# Altium schematic symbol library Discrete.SchLib: 34 symbols
Pins are listed as number, name and electrical type; pins without a type are passive.

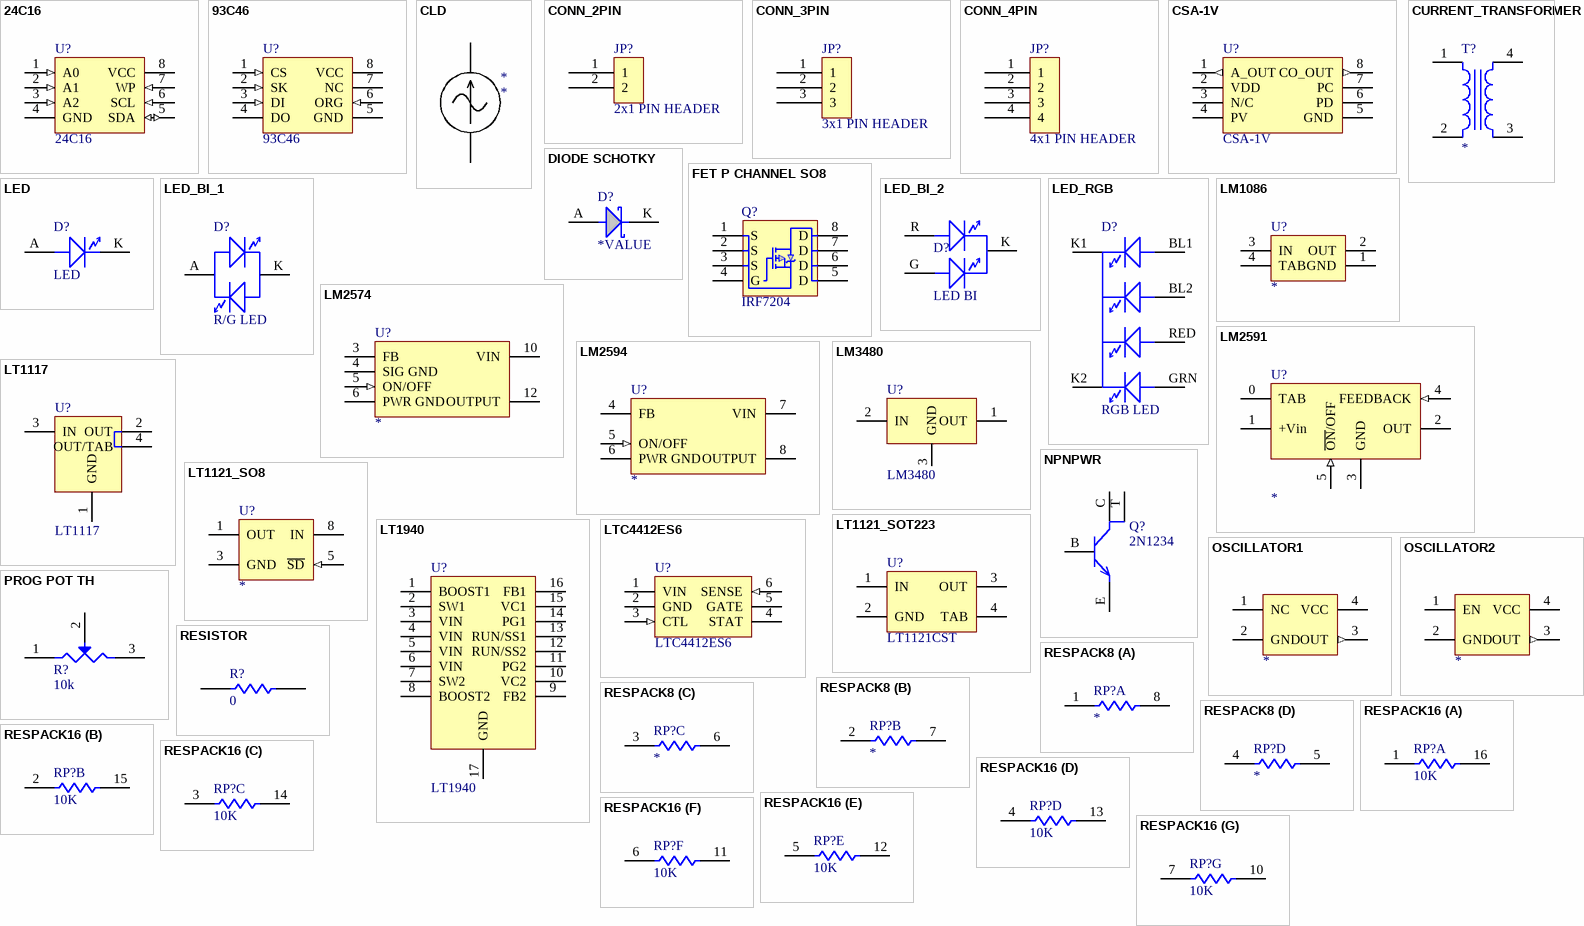
[diagram p0: symbols 24C16 to RESPACK16]

## 24C16
designator U?
EEPROM; PARTNO: CHP-; VALUE: 24C16
footprint SO8_012105 (SMT)
footprint DIP8
pins: 1 A0 (in), 2 A1 (in), 3 A2 (in), 4 GND (power), 5 SDA (io), 6 SCL (in), 7 WP (in), 8 VCC (power)

## 93C46
designator U?
EEPROM; PARTNO: CHP-; VALUE: 93C46
footprint SO8_012105 (SMT)
footprint DIP8
pins: 1 CS (in), 2 SK (in), 3 DI (in), 4 DO (oc), 5 GND (power), 6 ORG (in), 7 NC, 8 VCC (power)

## CLD
designator *
pins: 1 I1, 2 I2

## CONN_2PIN
designator JP?, comment 2x1 PIN HEADER
PARTNO: CON-; VALUE: 2x1 PIN HEADER
pins: 1, 2

## CONN_3PIN
designator JP?, comment 3x1 PIN HEADER
PARTNO: CON-; VALUE: 3x1 PIN HEADER
pins: 1, 2, 3

## CONN_4PIN
designator JP?, comment 4x1 PIN HEADER
PARTNO: CON-; VALUE: 4x1 PIN HEADER
pins: 1, 2, 3, 4

## CSA-1V
designator U?
PARTNO: CSA-1V; VALUE: CSA-1V
footprint SO8_030205 (SMT)
pins: 1 A_OUT (out) "Signal Out", 2 VDD (power) "+5V", 3 N/C "No Connect", 4 PV "Programming Voltage", 5 GND (power) "Ground", 6 PD "Programing Data", 7 PC "Programing Clock", 8 CO_OUT (out) "Analog Common"

## CURRENT_TRANSFORMER
designator T?
pins: 1, 2, 3, 4

## DIODE SCHOTKY
designator D?, comment *VALUE
PARTNO: NEW; VALUE: MBRS140
pins: A, K

## FET P CHANNEL SO8
designator Q?, comment IRF7204
PARTNO: IRF7204; VALUE: IRF7204
footprint SO8_030205 (SMT)
pins: 1 S, 2 S, 3 S, 4 G, 5 D, 6 D, 7 D, 8 D

## LED
designator D?
VALUE: LED; PARTNO: ?
footprint SOD123
pins: A, K

## LED_BI_1
designator D?, comment R/G LED
PARTNO: LED Bi-Color; VALUE: R/G LED
footprint SOD123
pins: A, K

## LED_BI_2
designator D?, comment LED BI
VALUE: LED BI; PARTNO: ?
footprint 3.2X1.6X1.1 (SMT LED; 2 Flat Leads)
pins: G, K, R

## LED_RGB
designator D?, comment RGB LED
PARTNO: SSL-LX5099; VALUE: RGB LED
pins: BL1 (power), BL2 (power), GRN (power), K1, K2, RED (power)

## LM1086
designator U?
footprint TO263
pins: 1 GND (power), 2 OUT (power), 3 IN (power), 4 TAB (power)

## LM2574
designator U?
Simple Switcher
footprint SO14
pins: 3 FB, 4 SIG GND (power), 5 ON/OFF (in), 6 PWR GND (power), 10 VIN (power), 12 OUTPUT (power)

## LM2591
designator U?
footprint SOT263
footprint TO220
pins: 0 TAB "Tab", 1 +Vin (power), 2 OUT (power), 3 GND (power), 4 FEEDBACK (in), 5 ~{ON}/OFF (in)

## LM2594
designator U?
Simple Switcher
footprint SO14
pins: 4 FB, 5 ON/OFF (in), 6 PWR GND (power), 7 VIN (power), 8 OUTPUT (power)

## LM3480
designator U?
PARTNO: LM3480; VALUE: LM3480
footprint SOT23_012105 (SMT)
pins: 1 OUT (power), 2 IN (power), 3 GND (power)

## LT1117
designator U?
PARTNO: CHP-; VALUE: LT1117
footprint SOT223 REG_011905 (SMT)
pins: 1 GND, 2 OUT (power), 3 IN (power), 4 OUT/TAB (power)

## LT1121_SO8
designator U?
footprint SO8
pins: 1 OUT (power), 3 GND (power), 5 ~{SD} (in), 8 IN (power)

## LT1121_SOT223
designator U?, comment LT1121CST
PARTNO: LT1121CST; VALUE: LT1121CST; DK: LT1121CST-5#PBF-ND
footprint SOT223 REG_011905 (SMT)
pins: 1 IN (power), 2 GND (power), 3 OUT (power), 4 TAB (power)

## LT1940
designator U?
PARTNO: LT1940; VALUE: LT1940
pins: 1 BOOST1, 2 SW1, 3 VIN (power), 4 VIN (power), 5 VIN (power), 6 VIN (power), 7 SW2, 8 BOOST2, 9 FB2, 10 VC2, 11 PG2, 12 RUN/SS2, 13 RUN/SS1, 14 PG1, 15 VC1, 16 FB1, 17 GND (power)

## LTC4412ES6
designator U?
PARTNO: LTC4412ES6; VALUE: LTC4412ES6
footprint SOT23-6_030205 (SMT)
pins: 1 VIN (power), 2 GND (power), 3 CTL (in), 4 STAT (oc), 5 GATE (oc), 6 SENSE (in)

## NPNPWR
designator Q?, comment 2N1234
VALUE: 2N1234; PARTNO: ?
pins: B BASE, C COLLECTOR, E EMITTER, T TAB

## OSCILLATOR1
designator ?
pins: 1 NC, 2 GND (power), 3 OUT (out), 4 VCC (power)

## OSCILLATOR2
designator ?
pins: 1 EN, 2 GND (power), 3 OUT (out), 4 VCC (power)

## PROG POT TH
designator R?, comment 10k
VALUE: 10k; PARTNO: ?
pins: 1, 2, 3

## RESISTOR
designator R?, comment 0
PARTNO: RES-0000; VALUE: 0
footprint 1206_012005 (SMT)
pins: 1, 2

## RESPACK8
designator RP?
footprint RES PAK 8
part A pins: 1, 8
part B pins: 2, 7
part C pins: 3, 6
part D pins: 4, 5

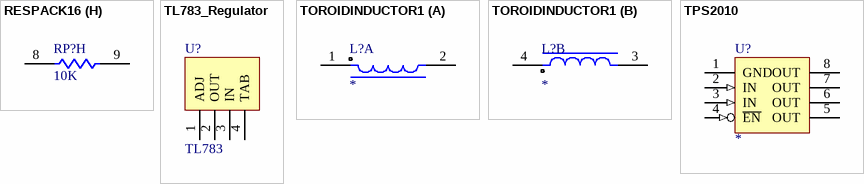
[diagram p1: symbols RESPACK16 to TPS2010]

## RESPACK16
designator RP?, comment 10K
PARTNO: MNR18E0APJ103; MAN: Rohm; VALUE: 10K; DK: MNR18103CT-ND
footprint RES PAK 16 0603_071708 (Footprint not found)
part A pins: 1, 16 8
part B pins: 2, 15 7
part C pins: 3, 14 6
part D pins: 4, 13 5
part E pins: 5 4, 12 5
part F pins: 6 4, 11 5
part G pins: 7 4, 10 5
part H pins: 8 4, 9 5

## TL783_Regulator
designator U?, comment TL783
Voltage Regulator; PARTNO: TL783CKC; VALUE: TL783
footprint TO220_031007 (TO220 Generic)
pins: 1 ADJ (power) "Vadj", 2 OUT (power) "Vadj", 3 IN (power) "Vin", 4 TAB (power) "Vout"

## TOROIDINDUCTOR1
designator L?
footprint TOROID_PM3602
part A pins: 1, 2
part B pins: 3, 4

## TPS2010
designator U?
footprint SOP8
pins: 1 GND (power), 2 IN (in), 3 IN (in), 4 ~{EN} (in), 5 OUT (power), 6 OUT (power), 7 OUT (power), 8 OUT (power)